# Altium schematic symbol library ic-adc-dac-dds.SchLib: 20 symbols
Pins are listed as number, name and electrical type; pins without a type are passive.

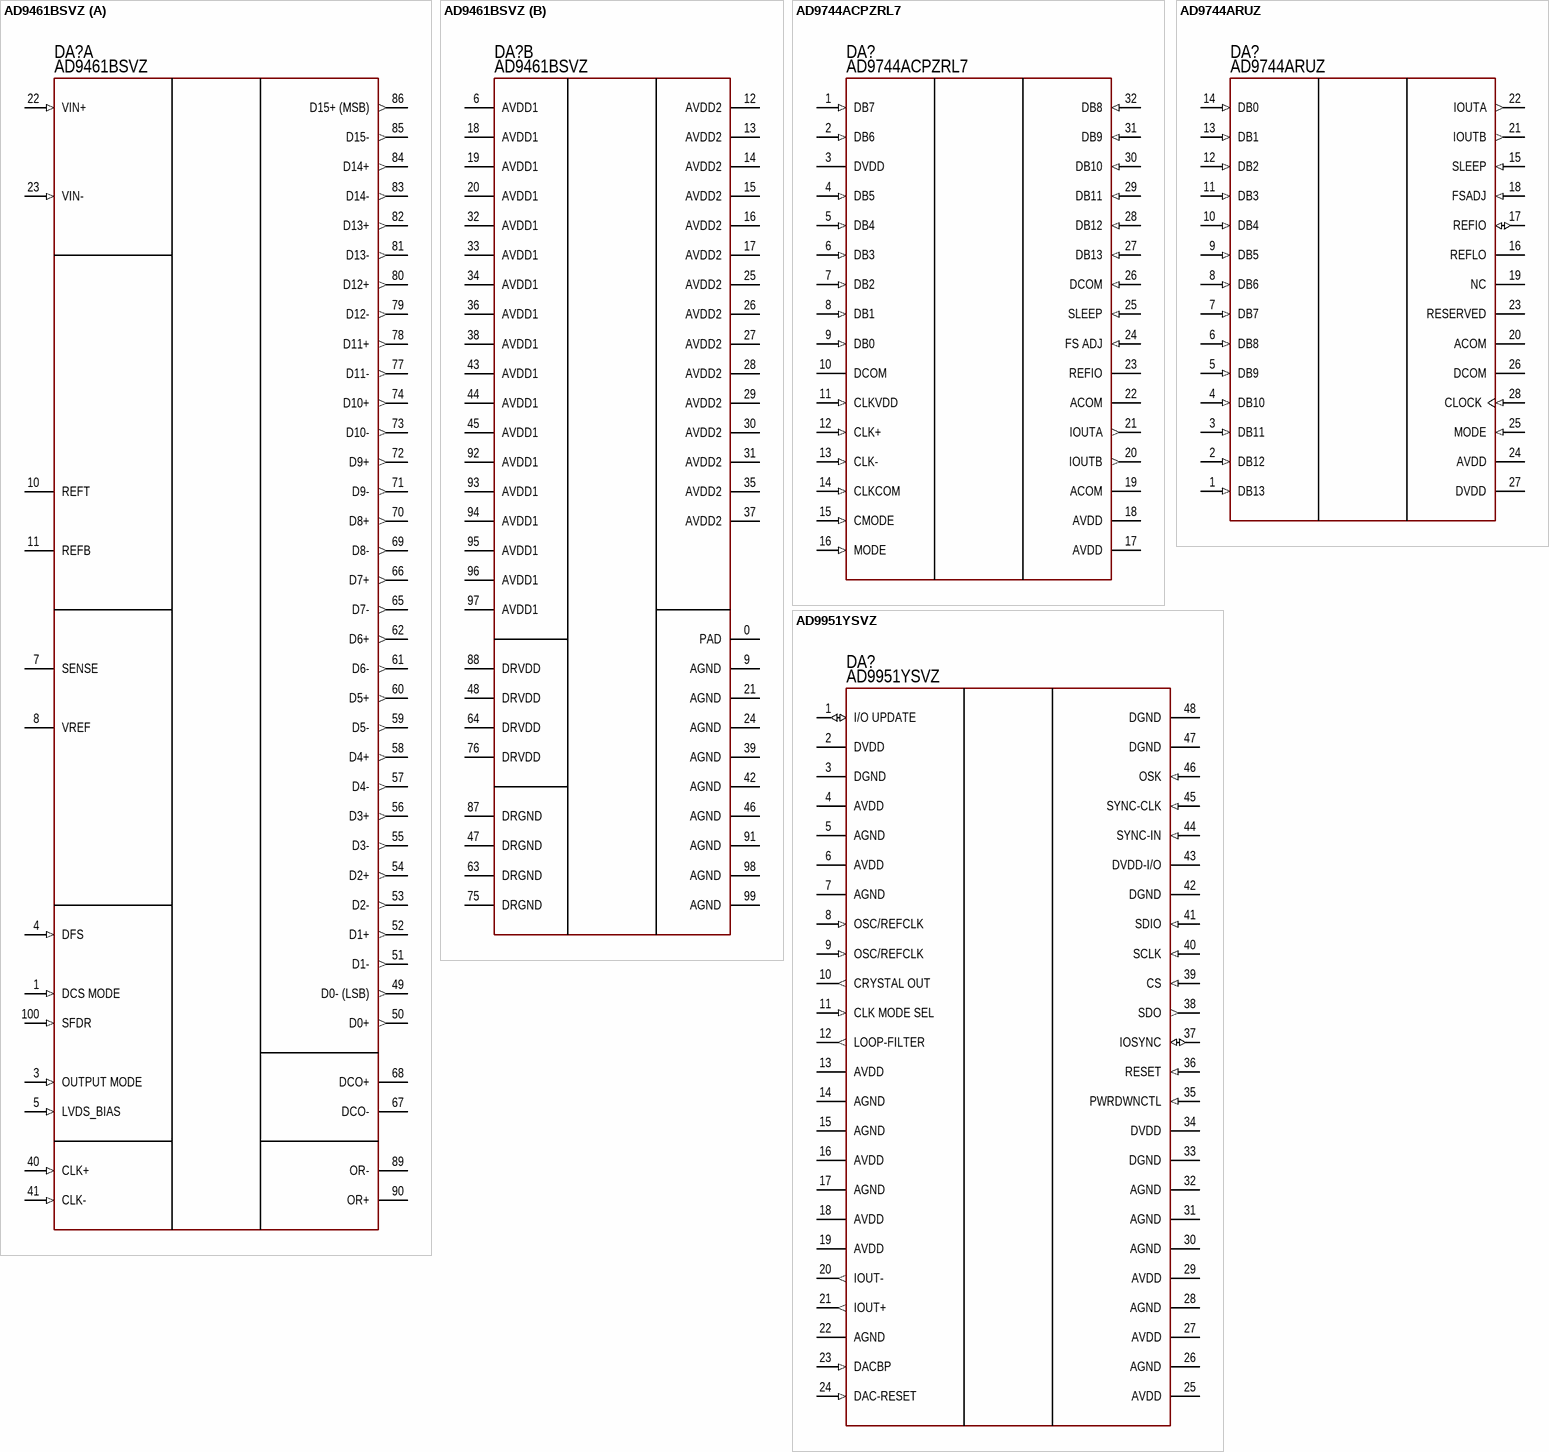
[diagram p0: symbols AD9461BSVZ to AD9951YSVZ]

## AD9461BSVZ
designator DA?  PartNumber: AD9461BSVZ
RF ADC; Manufacturer: Analog Devices; ValueManufacturerPartNumber: IC RF ADC, 16 bit, 130 Msps, Parallel/LVDS, 3...3.6V, -40...+85°C, 100-TQFP; Supply: 3...3.6V; Speed: 130 Msps; InterfaceData: Parallel/LVDS; Resolution: 16 bit; HelpURL: https://www.digikey.com/products/en?keywords=AD9461BSVZ; Package: 100-TQFP; ComponentType: IC RF ADC; Temperature: -40...+85°C
footprint 100-LQFP-PAD (Thin QFP, 100-Leads, Body 14x14mm, Pitch 0.5mm, IPC Medium Density)
part A pins: 1 DCS MODE (in), 3 OUTPUT MODE (in), 4 DFS (in), 5 LVDS_BIAS (in), 7 SENSE (power), 8 VREF (power), 10 REFT (power), 11 REFB (power), 22 VIN+ (in), 23 VIN- (in), 40 CLK+ (in), 41 CLK- (in), 49 D0- (LSB) (out), 50 D0+ (out), 51 D1- (out), 52 D1+ (out), 53 D2- (out), 54 D2+ (out), 55 D3- (out), 56 D3+ (out), 57 D4- (out), 58 D4+ (out), 59 D5- (out), 60 D5+ (out), 61 D6- (out), 62 D6+ (out), 65 D7- (out), 66 D7+ (out), 67 DCO-, 68 DCO+, 69 D8- (out), 70 D8+ (out), 71 D9- (out), 72 D9+ (out), 73 D10- (out), 74 D10+ (out), 77 D11- (out), 78 D11+ (out), 79 D12- (out), 80 D12+ (out), 81 D13- (out), 82 D13+ (out), 83 D14- (out), 84 D14+ (out), 85 D15- (out), 86 D15+ (MSB) (out), 89 OR-, 90 OR+, 100 SFDR (in)
part B pins: 0 PAD (power), 6 AVDD1 (power), 9 AGND (power), 12 AVDD2 (power), 13 AVDD2 (power), 14 AVDD2 (power), 15 AVDD2 (power), 16 AVDD2 (power), 17 AVDD2 (power), 18 AVDD1 (power), 19 AVDD1 (power), 20 AVDD1 (power), 21 AGND (power), 24 AGND (power), 25 AVDD2 (power), 26 AVDD2 (power), 27 AVDD2 (power), 28 AVDD2 (power), 29 AVDD2 (power), 30 AVDD2 (power), 31 AVDD2 (power), 32 AVDD1 (power), 33 AVDD1 (power), 34 AVDD1 (power), 35 AVDD2 (power), 36 AVDD1 (power), 37 AVDD2 (power), 38 AVDD1 (power), 39 AGND (power), 42 AGND (power), 43 AVDD1 (power), 44 AVDD1 (power), 45 AVDD1 (power), 46 AGND (power), 47 DRGND (power), 48 DRVDD (power), 63 DRGND (power), 64 DRVDD (power), 75 DRGND (power), 76 DRVDD (power), 87 DRGND (power), 88 DRVDD (power), 91 AGND (power), 92 AVDD1 (power), 93 AVDD1 (power), 94 AVDD1 (power), 95 AVDD1 (power), 96 AVDD1 (power), 97 AVDD1 (power), 98 AGND (power), 99 AGND (power)

## AD9744ACPZRL7
designator DA?  PartNumber: AD9744ACPZRL7
RF DAC; Manufacturer: Analog Devices; ValueManufacturerPartNumber: IC TxDAC, 14 bit, 210 Msps, Parallel, 2.7...3.6V, -40...+85°C, 32-WFQFN; Supply: 2.7...3.6V; Speed: 210 Msps; InterfaceData: Parallel; Resolution: 14 bit; HelpURL: https://www.digikey.com/product-detail/en/analog-devices-inc/AD9744ACPZRL7/AD9744ACPZRL7CT-ND/3740746; Package: 32-WFQFN; ComponentType: IC TxDAC; Temperature: -40...+85°C
footprint 32-QFN (5x5 mm, pitch 0.5 mm, power pad)
pins: 1 DB7 (in), 2 DB6 (in), 3 DVDD (power), 4 DB5 (in), 5 DB4 (in), 6 DB3 (in), 7 DB2 (in), 8 DB1 (in), 9 DB0 (in), 10 DCOM (power), 11 CLKVDD (in), 12 CLK+ (in), 13 CLK- (in), 14 CLKCOM (in), 15 CMODE (in), 16 MODE (in), 17 AVDD (power), 18 AVDD (power), 19 ACOM (power), 20 IOUTB (out), 21 IOUTA (out), 22 ACOM (power), 23 REFIO (power), 24 FS ADJ (in), 25 SLEEP (in), 26 DCOM (in), 27 DB13 (in), 28 DB12 (in), 29 DB11 (in), 30 DB10 (in), 31 DB9 (in), 32 DB8 (in)

## AD9744ARUZ
designator DA?  PartNumber: AD9744ARUZ
RF DAC; Manufacturer: Analog Devices; ValueManufacturerPartNumber: IC TxDAC, 14 bit, 210 Msps, Parallel, 2.7...3.6V, -40...+85°C, 28-TSSOP; Supply: 2.7...3.6V; Speed: 210 Msps; InterfaceData: Parallel; Resolution: 14 bit; HelpURL: https://www.digikey.com/product-detail/en/analog-devices-inc/AD9744ARUZ/AD9744ARUZ-ND/936549; Package: 28-TSSOP; ComponentType: IC TxDAC; Temperature: -40...+85°C
footprint 28-TSSOP (pitch 0.65 mm)
pins: 1 DB13 (in) "Most Significant Data Bit (MSB).", 2 DB12 (in) "Data Bit 12", 3 DB11 (in) "Data Bit 11", 4 DB10 (in) "Data Bit 10", 5 DB9 (in) "Data Bit 9", 6 DB8 (in) "Data Bit 8", 7 DB7 (in) "Data Bit 7", 8 DB6 (in) "Data Bit 6", 9 DB5 (in) "Data Bit 5", 10 DB4 (in) "Data Bit 4", 11 DB3 (in) "Data Bit 3", 12 DB2 (in) "Data Bit 2", 13 DB1 (in) "Data Bit 1", 14 DB0 (in) "Least Significant Data Bit (LSB).", 15 SLEEP (in) "Power-Down Control Input. Active high. Contains active pull-down circuit; it may be left unterminated if not used.", 16 REFLO "Reference Ground when Internal 1.2 V Reference Used. Connect to ACOM for both internal and external reference operation modes.", 17 REFIO (io) "Reference Input/Output. Serves as reference input when using external reference. Serves as 1.2 V reference output when using internal reference. Requires 0.1 uF capacitor to ACOM when using internal reference.", 18 FSADJ (in) "Full-Scale Current Output Adjust.", 19 NC "No Internal Connection.", 20 ACOM (power) "Analog Common.", 21 IOUTB (out) "Complementary DAC Current Output. Full-scale current when all data bits are 0s.", 22 IOUTA (out) "DAC Current Output. Full-scale current when all data bits are 1s.", 23 RESERVED "Reserved. Do not connect to common or supply.", 24 AVDD (power) "Analog Supply Voltage (3.3 V).", 25 MODE (in) "Selects Input Data Format. Connect to DCOM for straight binary, DVDD for twos complement.", 26 DCOM (power) "Digital Common.", 27 DVDD (power) "Digital Supply Voltage (3.3 V).", 28 CLOCK (in) "Clock Input. Data latched on positive edge of clock."

## AD9951YSVZ
designator DA?  PartNumber: AD9951YSVZ
DDS; Manufacturer: Analog Devices; ValueManufacturerPartNumber: IC DDS, 14 bit, 400 MHz, SPI, 1.71...1.96V, -40...+105°C, 48-TQFP; Supply: 1.71...1.96V; Speed: 400 MHz; InterfaceData: SPI; Resolution: 14 bit; HelpURL: https://www.digikey.com/products/en?keywords=AD9951YSVZ; Package: 48-TQFP; ComponentType: IC DDS; Temperature: -40...+105°C
footprint 48-LQFP (QFP, 48-Leads, Body 7x7mm, Pitch 0.5mm, IPC Medium Density)
pins: 1 I/O UPDATE (io), 2 DVDD (power), 3 DGND (power), 4 AVDD (power), 5 AGND (power), 6 AVDD (power), 7 AGND (power), 8 OSC/REFCLK (in), 9 OSC/REFCLK (in), 10 CRYSTAL OUT (out), 11 CLK MODE SEL (in), 12 LOOP-FILTER (out), 13 AVDD (power), 14 AGND (power), 15 AGND (power), 16 AVDD (power), 17 AGND (power), 18 AVDD (power), 19 AVDD (power), 20 IOUT- (out), 21 IOUT+ (out), 22 AGND (power), 23 DACBP (in), 24 DAC-RESET (in), 25 AVDD (power), 26 AGND (power), 27 AVDD (power), 28 AGND (power), 29 AVDD (power), 30 AGND (power), 31 AGND (power), 32 AGND (power), 33 DGND (power), 34 DVDD (power), 35 PWRDWNCTL (in), 36 RESET (in), 37 IOSYNC (io), 38 SDO (out), 39 CS (in), 40 SCLK (in), 41 SDIO (in), 42 DGND (power), 43 DVDD-I/O (power), 44 SYNC-IN (in), 45 SYNC-CLK (in), 46 OSK (in), 47 DGND (power), 48 DGND (power)

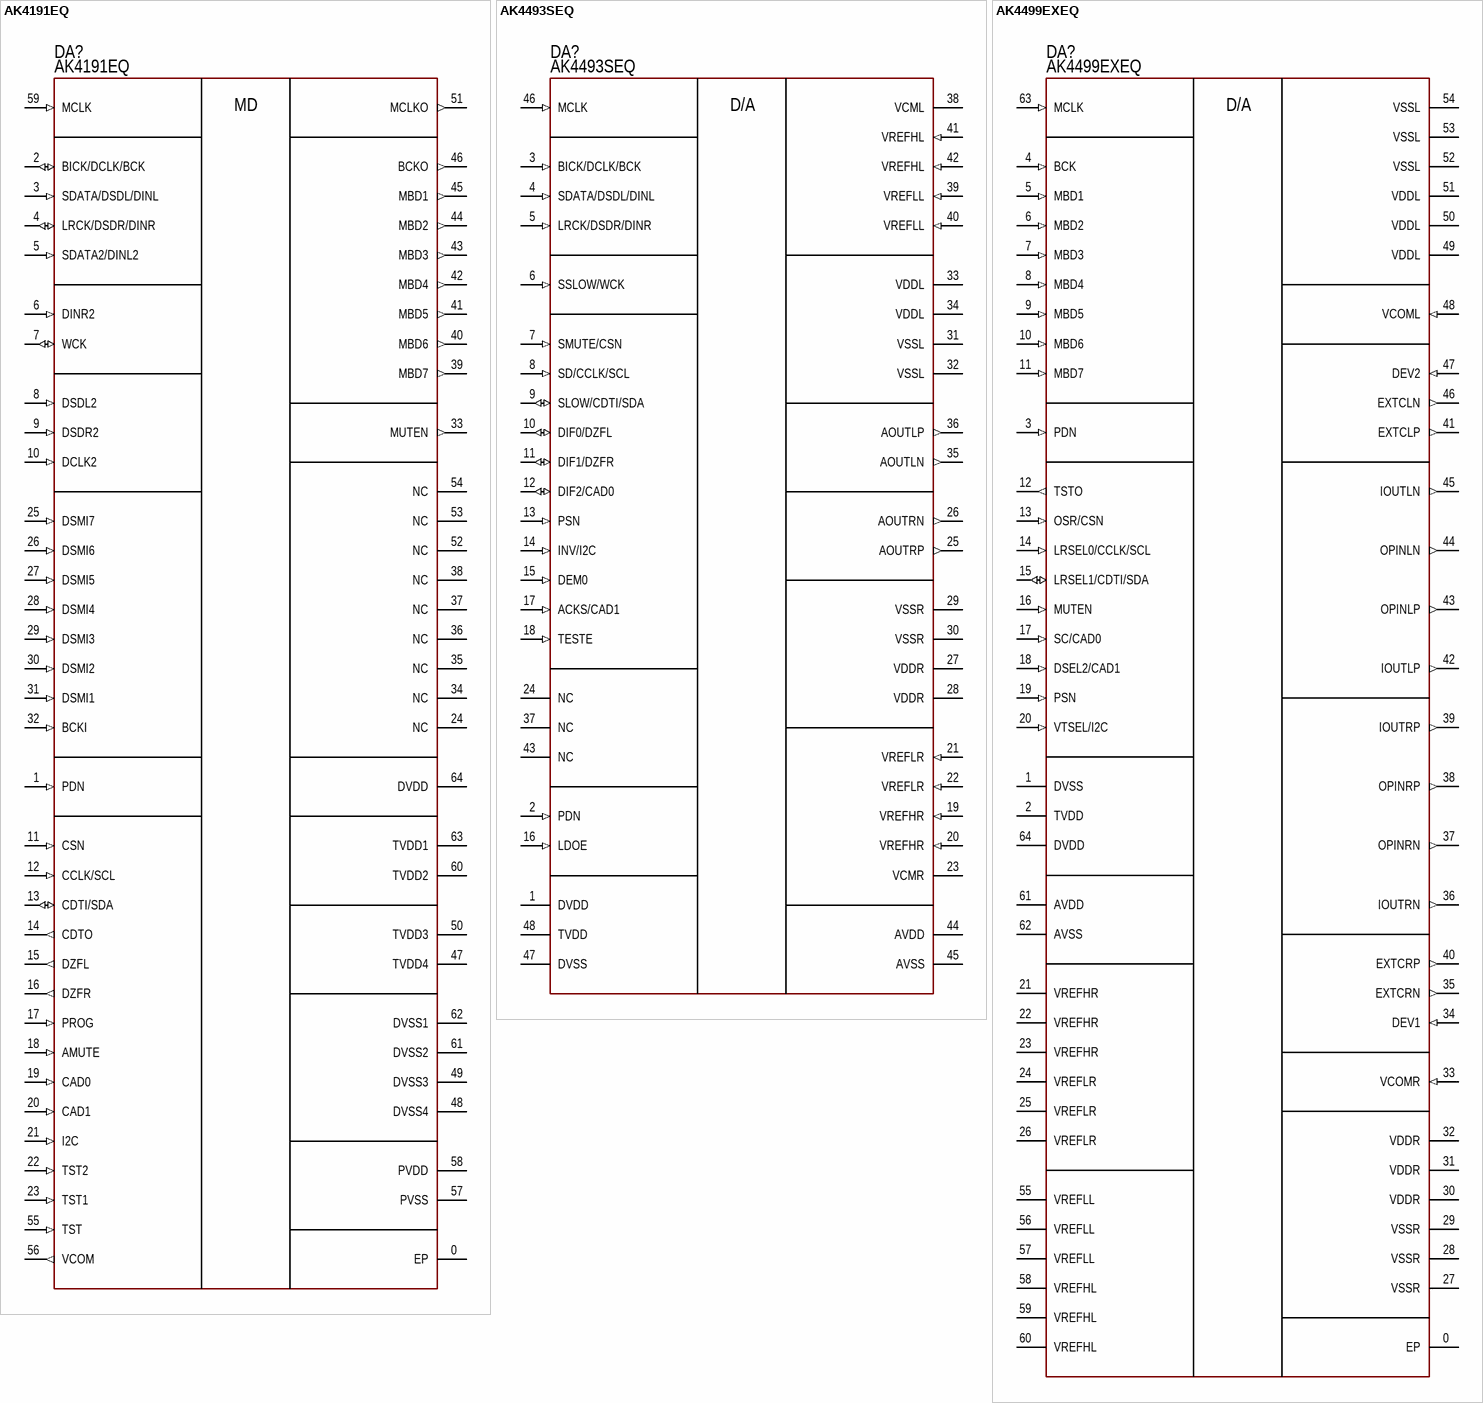
[diagram p1: symbols AK4191EQ to AK4499EXEQ]

## AK4191EQ
designator DA?  PartNumber: AK4191EQ
Delta-Sigma Modulator; Manufacturer: Asahi Kasei Microdevices; ValueManufacturerPartNumber: Audio Delta-Sigma Modulator, 64-bit Dual / 32-bit Single, 1536kHz, DSD, TDM, I2S, 3.0...3.6V, 1.7...3.6V, 1.14...1.3V, -40...+85°C, HTQFP-64; Supply: 3.0...3.6V, 1.7...3.6V, 1.14...1.3V; SamplingRate: 1536kHz; InterfaceData: DSD, TDM, I2S; Resolution: 64-bit Dual / 32-bit Single; HelpURL: https://eu.mouser.com/ProductDetail/Asahi-Kasei-Microdevices/AK4191EQ?qs=Jm2GQyTW%2Fbg3VxWa8PxIaQ%3D%3D; Package: HTQFP-64; ComponentType: Audio Delta-Sigma Modulator; Temperature: -40...+85°C
footprint 64-HTQFP (QFP,0.50mm pitch,square;16 pin X 16 pin,10.00mm X 10.00mm X 1.20mm H body (w/thermal tab 6.5 X 6.5 mm), IPC Medium Density)
pins: 0 EP, 1 PDN (in), 2 BICK/DCLK/BCK (io), 3 SDATA/DSDL/DINL (in), 4 LRCK/DSDR/DINR (io), 5 SDATA2/DINL2 (in), 6 DINR2 (in), 7 WCK (io), 8 DSDL2 (in), 9 DSDR2 (in), 10 DCLK2 (in), 11 CSN (in), 12 CCLK/SCL (in), 13 CDTI/SDA (io), 14 CDTO (out), 15 DZFL (out), 16 DZFR (out), 17 PROG (in), 18 AMUTE (in), 19 CAD0 (in), 20 CAD1 (in), 21 I2C (in), 22 TST2 (in), 23 TST1 (in), 24 NC, 25 DSMI7 (in), 26 DSMI6 (in), 27 DSMI5 (in), 28 DSMI4 (in), 29 DSMI3 (in), 30 DSMI2 (in), 31 DSMI1 (in), 32 BCKI (in), 33 MUTEN (out), 34 NC, 35 NC, 36 NC, 37 NC, 38 NC, 39 MBD7 (out), 40 MBD6 (out), 41 MBD5 (out), 42 MBD4 (out), 43 MBD3 (out), 44 MBD2 (out), 45 MBD1 (out), 46 BCKO (out), 47 TVDD4 (power), 48 DVSS4, 49 DVSS3, 50 TVDD3 (power), 51 MCLKO (out), 52 NC, 53 NC, 54 NC, 55 TST (in), 56 VCOM (out), 57 PVSS, 58 PVDD (power), 59 MCLK (in), 60 TVDD2 (power), 61 DVSS2, 62 DVSS1, 63 TVDD1 (power), 64 DVDD (power)
text: MD

## AK4493SEQ
designator DA?  PartNumber: AK4493SEQ
Audio D/A Converter; Manufacturer: Asahi Kasei Microdevices; ValueManufacturerPartNumber: Audio D/A Converter, 32 bit, 768kHz, DSD, I2S, 4.75...5.25V, 1.7...1.98V, 3.0...3.6V, -40...+85°C, LQFP-48; Supply: 4.75...5.25V, 1.7...1.98V, 3.0...3.6V; SamplingRate: 768kHz; InterfaceData: DSD, I2S; Resolution: 32 bit; HelpURL: https://eu.mouser.com/ProductDetail/Asahi-Kasei-Microdevices/AK4493SEQ?qs=vvQtp7zwQdNLz7hR9sAnvg%3D%3D; Package: LQFP-48; ComponentType: Audio D/A Converter; Temperature: -40...+85°C
footprint 48-LQFP (QFP, 48-Leads, Body 7x7mm, Pitch 0.5mm, IPC Medium Density)
pins: 1 DVDD (power), 2 PDN (in), 3 BICK/DCLK/BCK (in), 4 SDATA/DSDL/DINL (in), 5 LRCK/DSDR/DINR (in), 6 SSLOW/WCK (in), 7 SMUTE/CSN (in), 8 SD/CCLK/SCL (in), 9 SLOW/CDTI/SDA (io), 10 DIF0/DZFL (io), 11 DIF1/DZFR (io), 12 DIF2/CAD0 (io), 13 PSN (in), 14 INV/I2C (in), 15 DEM0 (in), 16 LDOE (in), 17 ACKS/CAD1 (in), 18 TESTE (in), 19 VREFHR (in), 20 VREFHR (in), 21 VREFLR (in), 22 VREFLR (in), 23 VCMR (power), 24 NC, 25 AOUTRP (out), 26 AOUTRN (out), 27 VDDR (power), 28 VDDR (power), 29 VSSR (power), 30 VSSR (power), 31 VSSL (power), 32 VSSL (power), 33 VDDL (power), 34 VDDL (power), 35 AOUTLN (out), 36 AOUTLP (out), 37 NC, 38 VCML (power), 39 VREFLL (in), 40 VREFLL (in), 41 VREFHL (in), 42 VREFHL (in), 43 NC, 44 AVDD (power), 45 AVSS (power), 46 MCLK (in), 47 DVSS (power), 48 TVDD (power)
text: D/A

## AK4499EXEQ
designator DA?  PartNumber: AK4499EXEQ
Audio D/A Converter; Manufacturer: Asahi Kasei Microdevices; ValueManufacturerPartNumber: Audio D/A Converter, 64-bit Dual / 32-bit Single, 1536kHz, Multi-Bit, 1.7...3.6V, 1.7...1.98V, 4.75...5.25V, -40...+85°C, HTQFP-64; Supply: 1.7...3.6V, 1.7...1.98V, 4.75...5.25V; SamplingRate: 1536kHz; InterfaceData: Multi-Bit; Resolution: 64-bit Dual / 32-bit Single; HelpURL: https://eu.mouser.com/ProductDetail/Asahi-Kasei-Microdevices/AK4499EXEQ?qs=Jm2GQyTW%2FbgskGT5RpdZpA%3D%3D; Package: HTQFP-64; ComponentType: Audio D/A Converter; Temperature: -40...+85°C
footprint 64-HTQFP (QFP,0.50mm pitch,square;16 pin X 16 pin,10.00mm X 10.00mm X 1.20mm H body (w/thermal tab 6.5 X 6.5 mm), IPC Medium Density)
pins: 0 EP, 1 DVSS, 2 TVDD (power), 3 PDN (in), 4 BCK (in), 5 MBD1 (in), 6 MBD2 (in), 7 MBD3 (in), 8 MBD4 (in), 9 MBD5 (in), 10 MBD6 (in), 11 MBD7 (in), 12 TSTO (out), 13 OSR/CSN (in), 14 LRSEL0/CCLK/SCL (in), 15 LRSEL1/CDTI/SDA (io), 16 MUTEN (in), 17 SC/CAD0 (in), 18 DSEL2/CAD1 (in), 19 PSN (in), 20 VTSEL/I2C (in), 21 VREFHR (power), 22 VREFHR (power), 23 VREFHR (power), 24 VREFLR, 25 VREFLR, 26 VREFLR, 27 VSSR, 28 VSSR, 29 VSSR, 30 VDDR (power), 31 VDDR (power), 32 VDDR (power), 33 VCOMR (in), 34 DEV1 (in), 35 EXTCRN (out), 36 IOUTRN (out), 37 OPINRN (out), 38 OPINRP (out), 39 IOUTRP (out), 40 EXTCRP (out), 41 EXTCLP (out), 42 IOUTLP (out), 43 OPINLP (out), 44 OPINLN (out), 45 IOUTLN (out), 46 EXTCLN (out), 47 DEV2 (in), 48 VCOML (in), 49 VDDL (power), 50 VDDL (power), 51 VDDL (power), 52 VSSL, 53 VSSL, 54 VSSL, 55 VREFLL, 56 VREFLL, 57 VREFLL, 58 VREFHL (power), 59 VREFHL (power), 60 VREFHL (power), 61 AVDD (power), 62 AVSS, 63 MCLK (in), 64 DVDD (power)
text: D/A

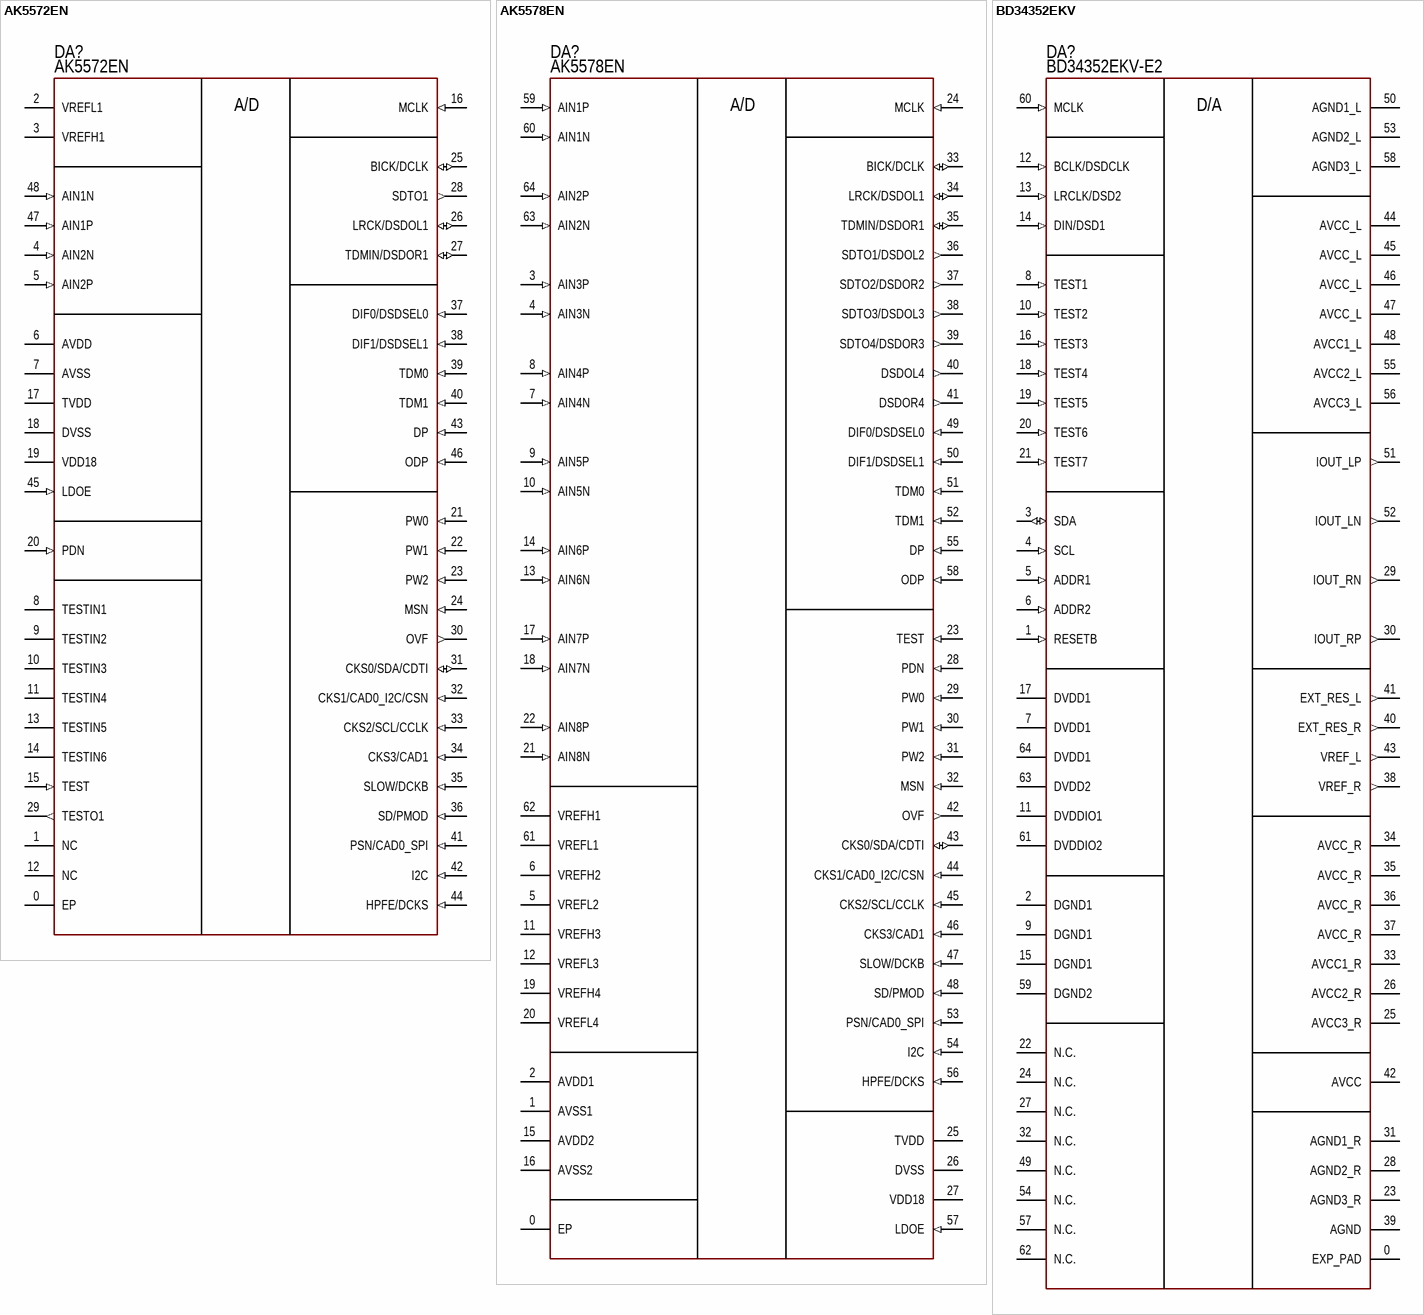
[diagram p2: symbols AK5572EN to BD34352EKV]

## AK5572EN
designator DA?  PartNumber: AK5572EN
ADC, Audio; Manufacturer: Asahi Kasei Microdevices; ValueManufacturerPartNumber: ADC, Audio, 32 bit, 768kHz, DSD, I2S, 1.8V, 5V, -40...+105°C, QFN-48; Supply: 1.8V, 5V; SamplingRate: 768kHz; InterfaceData: DSD, I2S; Resolution: 32 bit; HelpURL: https://www.digikey.com/en/products/detail/asahi-kasei-microdevices-akm/AK5572EN/5848562; Package: QFN-48; ComponentType: ADC, Audio; Temperature: -40...+105°C
footprint 48-QFN-P (50P-700X700X85-S510) (QFN, 0.50mm Pitch, Square; 48 Pin, 7.00mm L X 7.00mm W X 0.85mm H Body (W/Thermal Tab 5.10mm X 5.10mm), Punch, IPC Medium Density)
pins: 0 EP, 1 NC, 2 VREFL1 (power), 3 VREFH1 (power), 4 AIN2N (in), 5 AIN2P (in), 6 AVDD (power), 7 AVSS, 8 TESTIN1, 9 TESTIN2, 10 TESTIN3, 11 TESTIN4, 12 NC, 13 TESTIN5, 14 TESTIN6, 15 TEST (in), 16 MCLK (in), 17 TVDD (power), 18 DVSS, 19 VDD18 (power), 20 PDN (in), 21 PW0 (in), 22 PW1 (in), 23 PW2 (in), 24 MSN (in), 25 BICK/DCLK (io), 26 LRCK/DSDOL1 (io), 27 TDMIN/DSDOR1 (io), 28 SDTO1 (out), 29 TESTO1 (out), 30 OVF (out), 31 CKS0/SDA/CDTI (io), 32 CKS1/CAD0_I2C/CSN (in), 33 CKS2/SCL/CCLK (in), 34 CKS3/CAD1 (in), 35 SLOW/DCKB (in), 36 SD/PMOD (in), 37 DIF0/DSDSEL0 (in), 38 DIF1/DSDSEL1 (in), 39 TDM0 (in), 40 TDM1 (in), 41 PSN/CAD0_SPI (in), 42 I2C (in), 43 DP (in), 44 HPFE/DCKS (in), 45 LDOE (in), 46 ODP (in), 47 AIN1P (in), 48 AIN1N (in)
text: A/D

## AK5578EN
designator DA?  PartNumber: AK5578EN
ADC, Audio; Manufacturer: Asahi Kasei Microdevices; ValueManufacturerPartNumber: ADC, Audio, 32 bit, 768kHz, DSD, I2S, 1.8V, 5V, -40...+105°C, QFN-64; Supply: 1.8V, 5V; SamplingRate: 768kHz; InterfaceData: DSD, I2S; Resolution: 32 bit; HelpURL: https://eu.mouser.com/ProductDetail/Asahi-Kasei-Microdevices/AK5578EN?qs=vvQtp7zwQdM7H1iCPGIZ0A%3D%3D; Package: QFN-64; ComponentType: ADC, Audio; Temperature: -40...+105°C
footprint 64-QFN (50P-900X900X100-S615) (QFN,0.50mm pitch,square;64 pin,9.00mm L X 9.00mm W X 1.00mm H body (6.15mm X 6.15mm thermal tab), IPC Medium Density)
pins: 0 EP, 1 AVSS1, 2 AVDD1 (power), 3 AIN3P (in), 4 AIN3N (in), 5 VREFL2 (power), 6 VREFH2 (power), 7 AIN4N (in), 8 AIN4P (in), 9 AIN5P (in), 10 AIN5N (in), 11 VREFH3 (power), 12 VREFL3 (power), 13 AIN6N (in), 14 AIN6P (in), 15 AVDD2 (power), 16 AVSS2, 17 AIN7P (in), 18 AIN7N (in), 19 VREFH4 (power), 20 VREFL4 (power), 21 AIN8N (in), 22 AIN8P (in), 23 TEST (in), 24 MCLK (in), 25 TVDD (power), 26 DVSS, 27 VDD18 (power), 28 PDN (in), 29 PW0 (in), 30 PW1 (in), 31 PW2 (in), 32 MSN (in), 33 BICK/DCLK (io), 34 LRCK/DSDOL1 (io), 35 TDMIN/DSDOR1 (io), 36 SDTO1/DSDOL2 (out), 37 SDTO2/DSDOR2 (out), 38 SDTO3/DSDOL3 (out), 39 SDTO4/DSDOR3 (out), 40 DSDOL4 (out), 41 DSDOR4 (out), 42 OVF (out), 43 CKS0/SDA/CDTI (io), 44 CKS1/CAD0_I2C/CSN (in), 45 CKS2/SCL/CCLK (in), 46 CKS3/CAD1 (in), 47 SLOW/DCKB (in), 48 SD/PMOD (in), 49 DIF0/DSDSEL0 (in), 50 DIF1/DSDSEL1 (in), 51 TDM0 (in), 52 TDM1 (in), 53 PSN/CAD0_SPI (in), 54 I2C (in), 55 DP (in), 56 HPFE/DCKS (in), 57 LDOE (in), 58 ODP (in), 59 AIN1P (in), 60 AIN1N (in), 61 VREFL1 (power), 62 VREFH1 (power), 63 AIN2N (in), 64 AIN2P (in)
text: A/D

## BD34352EKV
designator DA?  PartNumber: BD34352EKV-E2
Audio D/A Converter; Manufacturer: ROHM Semiconductor; ValueManufacturerPartNumber: Audio D/A Converter, 32 bit, 768kHz, DSD, I2S, 4.5...5.5V, 1.4...1.6V, 3.0...3.6V, -25...+85°C, HTQFP-64; Supply: 4.5...5.5V, 1.4...1.6V, 3.0...3.6V; SamplingRate: 768kHz; InterfaceData: DSD, I2S; Resolution: 32 bit; HelpURL: https://eu.mouser.com/ProductDetail/ROHM-Semiconductor/BD34352EKV-E2?qs=doiCPypUmgE6zjHEHWcN9A%3D%3D; Package: HTQFP-64; ComponentType: Audio D/A Converter; Temperature: -25...+85°C
footprint 64-HTQFP (QFP,0.50mm pitch,square;16 pin X 16 pin,10.00mm X 10.00mm X 1.20mm H body (w/thermal tab 6.5 X 6.5 mm), IPC Medium Density)
pins: 0 EXP_PAD (power), 1 RESETB (in), 2 DGND1 (power), 3 SDA (io), 4 SCL (in), 5 ADDR1 (in), 6 ADDR2 (in), 7 DVDD1 (power), 8 TEST1 (in), 9 DGND1 (power), 10 TEST2 (in), 11 DVDDIO1 (power), 12 BCLK/DSDCLK (in), 13 LRCLK/DSD2 (in), 14 DIN/DSD1 (in), 15 DGND1 (power), 16 TEST3 (in), 17 DVDD1 (power), 18 TEST4 (in), 19 TEST5 (in), 20 TEST6 (in), 21 TEST7 (in), 22 N.C., 23 AGND3_R (power), 24 N.C., 25 AVCC3_R (power), 26 AVCC2_R (power), 27 N.C., 28 AGND2_R (power), 29 IOUT_RN (out), 30 IOUT_RP (out), 31 AGND1_R (power), 32 N.C., 33 AVCC1_R (power), 34 AVCC_R (power), 35 AVCC_R (power), 36 AVCC_R (power), 37 AVCC_R (power), 38 VREF_R (out), 39 AGND (power), 40 EXT_RES_R (out), 41 EXT_RES_L (out), 42 AVCC (power), 43 VREF_L (out), 44 AVCC_L (power), 45 AVCC_L (power), 46 AVCC_L (power), 47 AVCC_L (power), 48 AVCC1_L (power), 49 N.C., 50 AGND1_L (power), 51 IOUT_LP (out), 52 IOUT_LN (out), 53 AGND2_L (power), 54 N.C., 55 AVCC2_L (power), 56 AVCC3_L (power), 57 N.C., 58 AGND3_L (power), 59 DGND2 (power), 60 MCLK (in), 61 DVDDIO2 (power), 62 N.C., 63 DVDD2 (power), 64 DVDD1 (power)
text: D/A

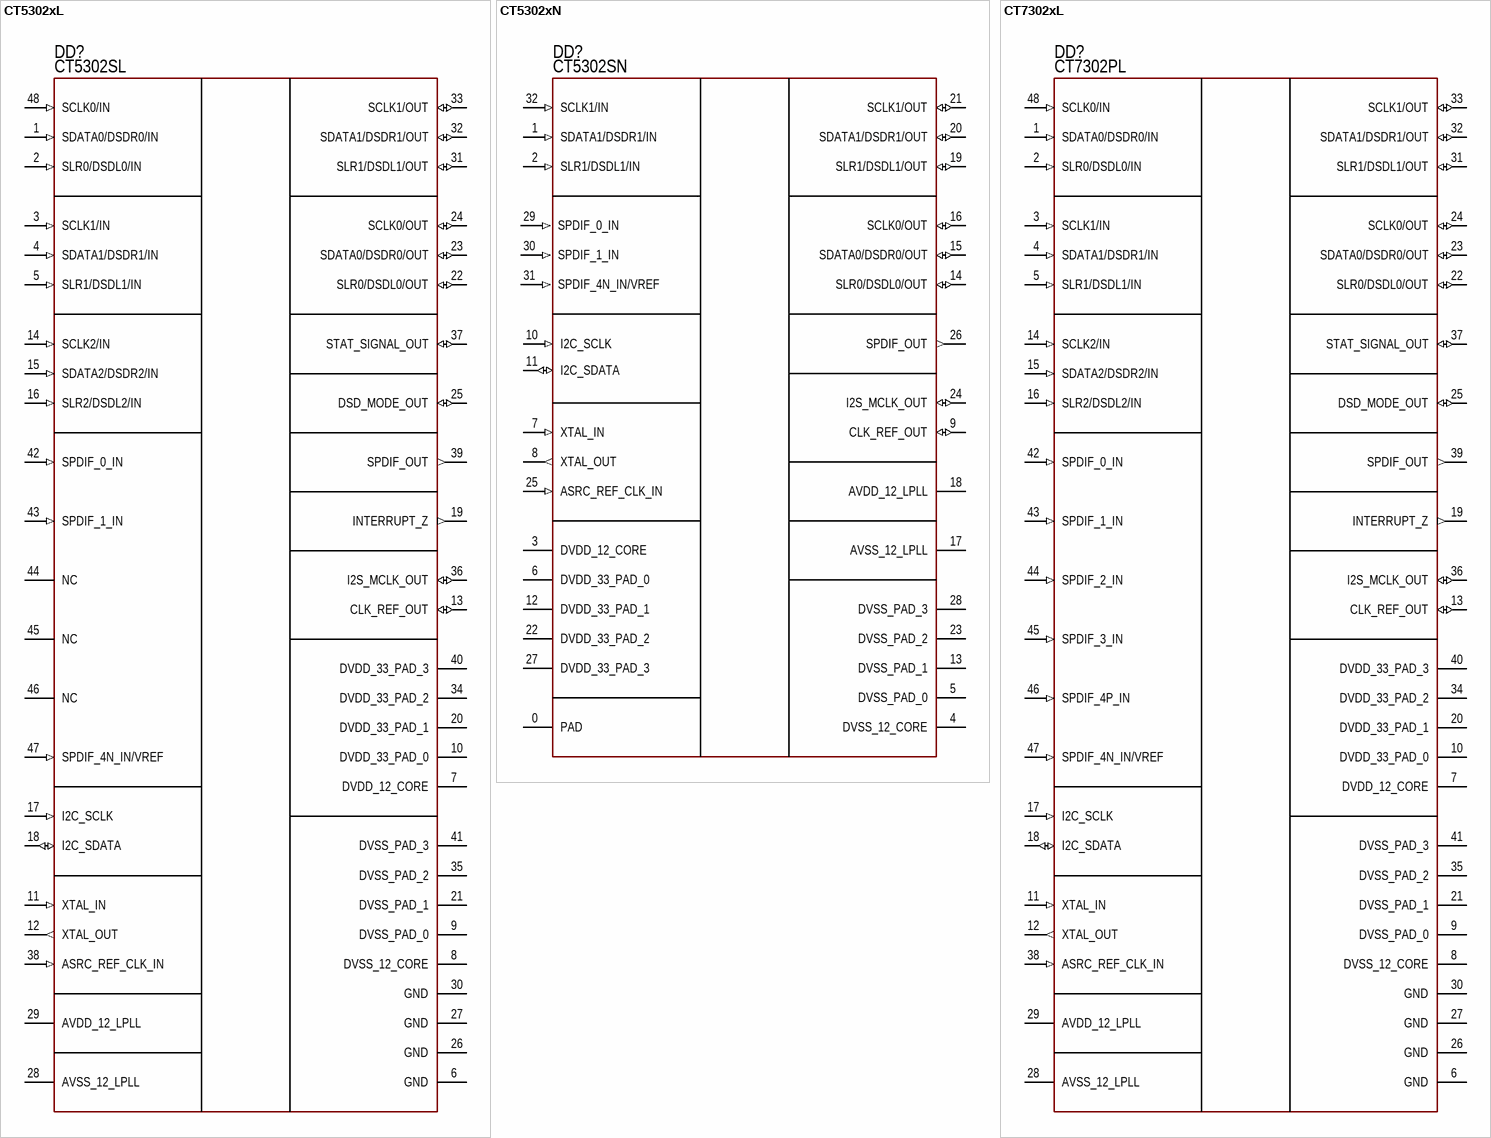
[diagram p3: symbols CT5302xL to CT7302xL]

## CT5302xL
designator DD?  PartNumber: CT5302SL
Audio SRC; Manufacturer: ComTrue Inc; ValueManufacturerPartNumber: Audio SRC, 32 bit, I2S/SPDIF, 1.2...3.3V, 0...+70°C, LQFP-48; Supply: 1.2...3.3V; InterfaceData: I2S/SPDIF; Resolution: 32 bit; HelpURL: https://www.comtrue-inc.com/index.php/products; Package: LQFP-48; ComponentType: Audio SRC; Temperature: 0...+70°C
footprint 48-LQFP (QFP, 48-Leads, Body 7x7mm, Pitch 0.5mm, IPC Medium Density)
pins: 1 SDATA0/DSDR0/IN (in), 2 SLR0/DSDL0/IN (in), 3 SCLK1/IN (in), 4 SDATA1/DSDR1/IN (in), 5 SLR1/DSDL1/IN (in), 6 GND, 7 DVDD_12_CORE (power), 8 DVSS_12_CORE, 9 DVSS_PAD_0, 10 DVDD_33_PAD_0 (power), 11 XTAL_IN (in), 12 XTAL_OUT (out), 13 CLK_REF_OUT (io), 14 SCLK2/IN (in), 15 SDATA2/DSDR2/IN (in), 16 SLR2/DSDL2/IN (in), 17 I2C_SCLK (in), 18 I2C_SDATA (io), 19 INTERRUPT_Z (out), 20 DVDD_33_PAD_1 (power), 21 DVSS_PAD_1, 22 SLR0/DSDL0/OUT (io), 23 SDATA0/DSDR0/OUT (io), 24 SCLK0/OUT (io), 25 DSD_MODE_OUT (io), 26 GND, 27 GND, 28 AVSS_12_LPLL, 29 AVDD_12_LPLL (power), 30 GND, 31 SLR1/DSDL1/OUT (io), 32 SDATA1/DSDR1/OUT (io), 33 SCLK1/OUT (io), 34 DVDD_33_PAD_2 (power), 35 DVSS_PAD_2, 36 I2S_MCLK_OUT (io), 37 STAT_SIGNAL_OUT (io), 38 ASRC_REF_CLK_IN (in), 39 SPDIF_OUT (out), 40 DVDD_33_PAD_3 (power), 41 DVSS_PAD_3, 42 SPDIF_0_IN (in), 43 SPDIF_1_IN (in), 44 NC, 45 NC, 46 NC, 47 SPDIF_4N_IN/VREF (in), 48 SCLK0/IN (in)

## CT5302xN
designator DD?  PartNumber: CT5302SN
Audio SRC; Manufacturer: ComTrue Inc; ValueManufacturerPartNumber: Audio SRC, 32 bit, I2S/SPDIF, 1.2...3.3V, 0...+70°C, QFN-32; Supply: 1.2...3.3V; InterfaceData: I2S/SPDIF; Resolution: 32 bit; HelpURL: https://www.comtrue-inc.com/index.php/products; Package: QFN-32; ComponentType: Audio SRC; Temperature: 0...+70°C
footprint 32-QFN (0.4P 4.0x4.0 2.75S) (QFN, 0.40mm Pitch, Square; 32 pin, 4.00mm L X 4.00mm W X 0.90mm H body (w/Thermal Tab), IPC Medium Density)
pins: 0 PAD, 1 SDATA1/DSDR1/IN (in), 2 SLR1/DSDL1/IN (in), 3 DVDD_12_CORE (power), 4 DVSS_12_CORE, 5 DVSS_PAD_0, 6 DVDD_33_PAD_0 (power), 7 XTAL_IN (in), 8 XTAL_OUT (out), 9 CLK_REF_OUT (io), 10 I2C_SCLK (in), 11 I2C_SDATA (io), 12 DVDD_33_PAD_1 (power), 13 DVSS_PAD_1, 14 SLR0/DSDL0/OUT (io), 15 SDATA0/DSDR0/OUT (io), 16 SCLK0/OUT (io), 17 AVSS_12_LPLL, 18 AVDD_12_LPLL (power), 19 SLR1/DSDL1/OUT (io), 20 SDATA1/DSDR1/OUT (io), 21 SCLK1/OUT (io), 22 DVDD_33_PAD_2 (power), 23 DVSS_PAD_2, 24 I2S_MCLK_OUT (io), 25 ASRC_REF_CLK_IN (in), 26 SPDIF_OUT (out), 27 DVDD_33_PAD_3 (power), 28 DVSS_PAD_3, 29 SPDIF_0_IN (in), 30 SPDIF_1_IN (in), 31 SPDIF_4N_IN/VREF (in), 32 SCLK1/IN (in)

## CT7302xL
designator DD?  PartNumber: CT7302PL
Audio SRC; Manufacturer: ComTrue Inc; ValueManufacturerPartNumber: Audio SRC, 32 bit, I2S/SPDIF, 1.2...3.3V, 0...+70°C, LQFP-48; Supply: 1.2...3.3V; InterfaceData: I2S/SPDIF; Resolution: 32 bit; HelpURL: https://www.comtrue-inc.com/index.php/products; Package: LQFP-48; ComponentType: Audio SRC; Temperature: 0...+70°C
footprint 48-LQFP (QFP, 48-Leads, Body 7x7mm, Pitch 0.5mm, IPC Medium Density)
pins: 1 SDATA0/DSDR0/IN (in), 2 SLR0/DSDL0/IN (in), 3 SCLK1/IN (in), 4 SDATA1/DSDR1/IN (in), 5 SLR1/DSDL1/IN (in), 6 GND, 7 DVDD_12_CORE (power), 8 DVSS_12_CORE, 9 DVSS_PAD_0, 10 DVDD_33_PAD_0 (power), 11 XTAL_IN (in), 12 XTAL_OUT (out), 13 CLK_REF_OUT (io), 14 SCLK2/IN (in), 15 SDATA2/DSDR2/IN (in), 16 SLR2/DSDL2/IN (in), 17 I2C_SCLK (in), 18 I2C_SDATA (io), 19 INTERRUPT_Z (out), 20 DVDD_33_PAD_1 (power), 21 DVSS_PAD_1, 22 SLR0/DSDL0/OUT (io), 23 SDATA0/DSDR0/OUT (io), 24 SCLK0/OUT (io), 25 DSD_MODE_OUT (io), 26 GND, 27 GND, 28 AVSS_12_LPLL, 29 AVDD_12_LPLL (power), 30 GND, 31 SLR1/DSDL1/OUT (io), 32 SDATA1/DSDR1/OUT (io), 33 SCLK1/OUT (io), 34 DVDD_33_PAD_2 (power), 35 DVSS_PAD_2, 36 I2S_MCLK_OUT (io), 37 STAT_SIGNAL_OUT (io), 38 ASRC_REF_CLK_IN (in), 39 SPDIF_OUT (out), 40 DVDD_33_PAD_3 (power), 41 DVSS_PAD_3, 42 SPDIF_0_IN (in), 43 SPDIF_1_IN (in), 44 SPDIF_2_IN (in), 45 SPDIF_3_IN (in), 46 SPDIF_4P_IN (in), 47 SPDIF_4N_IN/VREF (in), 48 SCLK0/IN (in)

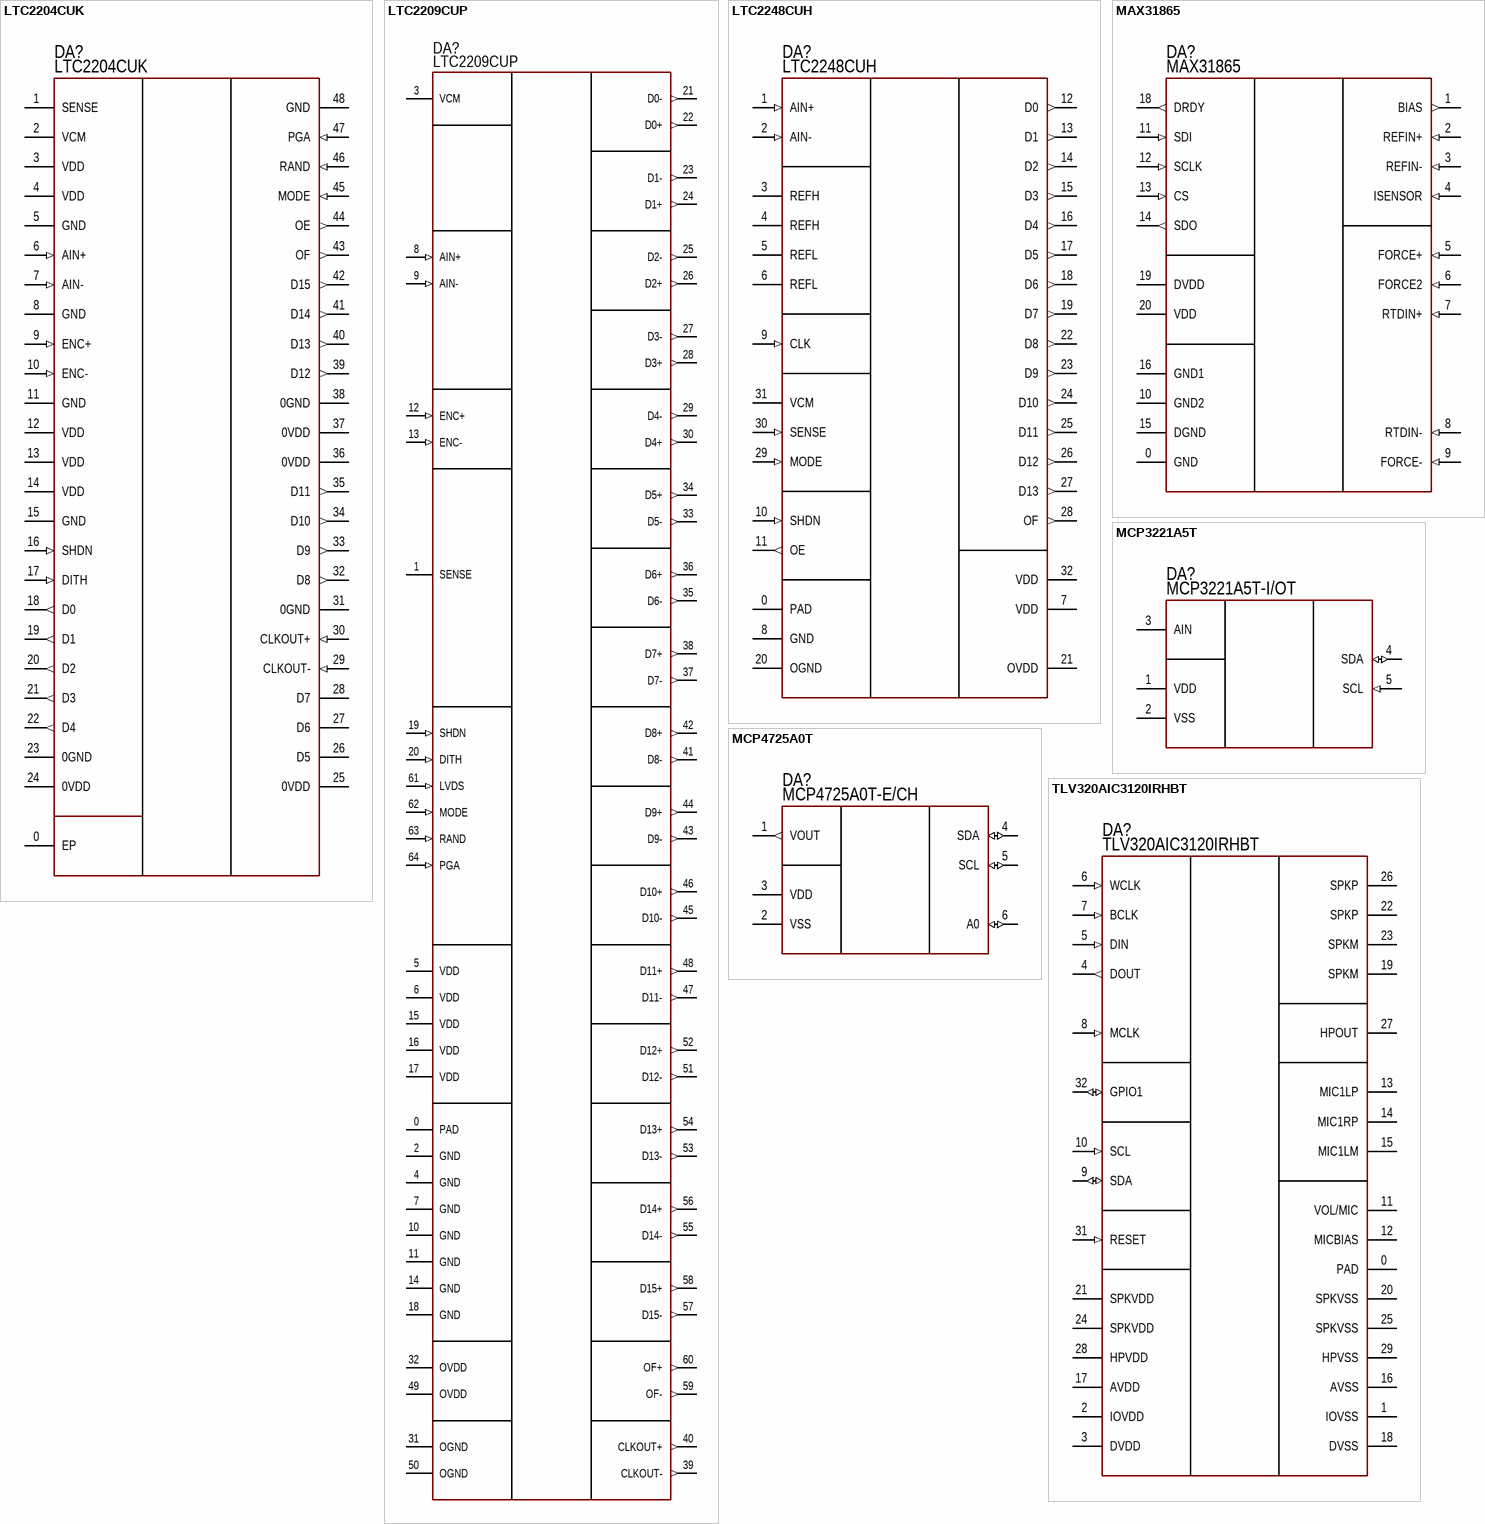
[diagram p4: symbols LTC2204CUK to TLV320AIC3120IRHBT]

## LTC2204CUK
designator DA?  PartNumber: LTC2204CUK
RF ADC; Manufacturer: Linear Technology; ValueManufacturerPartNumber: IC RF ADC, 16 bit, 40 Msps, Parallel, 3.135...3.465V, 0...+70°C, 48-WFQFN; Supply: 3.135...3.465V; Speed: 40 Msps; InterfaceData: Parallel; Resolution: 16 bit; HelpURL: https://www.digikey.com/products/en?keywords=AD9461BSVZ; Package: 48-WFQFN; ComponentType: IC RF ADC; Temperature: 0...+70°C
footprint 48-QFN (7x7) (7x7 mm, pitch 0.5 mm, power pad)
pins: 0 EP (power), 1 SENSE (power), 2 VCM (power), 3 VDD (power), 4 VDD (power), 5 GND (power), 6 AIN+ (in), 7 AIN- (in), 8 GND (power), 9 ENC+ (in), 10 ENC- (in), 11 GND (power), 12 VDD (power), 13 VDD (power), 14 VDD (power), 15 GND (power), 16 SHDN (in), 17 DITH (in), 18 D0 (out), 19 D1 (out), 20 D2 (out), 21 D3 (out), 22 D4 (out), 23 0GND (power), 24 0VDD (power), 25 0VDD (power), 26 D5, 27 D6, 28 D7, 29 CLKOUT- (in), 30 CLKOUT+ (in), 31 0GND (power), 32 D8 (out), 33 D9 (out), 34 D10 (out), 35 D11 (out), 36 0VDD (power), 37 0VDD (power), 38 0GND (power), 39 D12 (out), 40 D13 (out), 41 D14 (out), 42 D15 (out), 43 OF (out), 44 OE (out), 45 MODE (in), 46 RAND (in), 47 PGA (in), 48 GND (power)

## LTC2209CUP
designator DA?  PartNumber: LTC2209CUP
RF ADC; Manufacturer: Linear Technology; ValueManufacturerPartNumber: IC RF ADC, 16 bit, 160 Msps, Parallel/LVDS, 3.135...3.465V, 0...+70°C, 64-WFQFN; Supply: 3.135...3.465V; Speed: 160 Msps; InterfaceData: Parallel/LVDS; Resolution: 16 bit; HelpURL: https://www.digikey.com/product-detail/en/linear-technology-analog-devices/LTC2209CUP-PBF/LTC2209CUP-PBF-ND/1730243; Package: 64-WFQFN; ComponentType: IC RF ADC; Temperature: 0...+70°C
footprint 64-QFN (9x9 mm, pitch 0.5 mm, power pad)
pins: 0 PAD (power), 1 SENSE (power), 2 GND (power), 3 VCM (power), 4 GND (power), 5 VDD (power), 6 VDD (power), 7 GND (power), 8 AIN+ (in), 9 AIN- (in), 10 GND (power), 11 GND (power), 12 ENC+ (in), 13 ENC- (in), 14 GND (power), 15 VDD (power), 16 VDD (power), 17 VDD (power), 18 GND (power), 19 SHDN (in), 20 DITH (in), 21 D0- (out), 22 D0+ (out), 23 D1- (out), 24 D1+ (out), 25 D2- (out), 26 D2+ (out), 27 D3- (out), 28 D3+ (out), 29 D4- (out), 30 D4+ (out), 31 OGND (power), 32 OVDD (power), 33 D5- (out), 34 D5+ (out), 35 D6- (out), 36 D6+ (out), 37 D7- (out), 38 D7+ (out), 39 CLKOUT- (out), 40 CLKOUT+ (out), 41 D8- (out), 42 D8+ (out), 43 D9- (out), 44 D9+ (out), 45 D10- (out), 46 D10+ (out), 47 D11- (out), 48 D11+ (out), 49 OVDD (power), 50 OGND (power), 51 D12- (out), 52 D12+ (out), 53 D13- (out), 54 D13+ (out), 55 D14- (out), 56 D14+ (out), 57 D15- (out), 58 D15+ (out), 59 OF- (out), 60 OF+ (out), 61 LVDS (in), 62 MODE (in), 63 RAND (in), 64 PGA (in)

## LTC2248CUH
designator DA?  PartNumber: LTC2248CUH
RF ADC; Manufacturer: Linear Technology; ValueManufacturerPartNumber: IC RF ADC, 14 bit, 65 Msps, Parallel, 2.7...3.4V, 0...+70°C, 32-WFQFN; Supply: 2.7...3.4V; Speed: 65 Msps; InterfaceData: Parallel; Resolution: 14 bit; HelpURL: https://www.digikey.com/product-detail/en/linear-technology-analog-devices/LTC2248CUH-PBF/LTC2248CUH-PBF-ND/966497; Package: 32-WFQFN; ComponentType: IC RF ADC; Temperature: 0...+70°C
footprint 32-QFN (5x5 mm, pitch 0.5 mm, power pad)
pins: 0 PAD, 1 AIN+ (in), 2 AIN- (in), 3 REFH, 4 REFH, 5 REFL, 6 REFL, 7 VDD, 8 GND, 9 CLK (in), 10 SHDN (in), 11 OE (out), 12 D0 (out), 13 D1 (out), 14 D2 (out), 15 D3 (out), 16 D4 (out), 17 D5 (out), 18 D6 (out), 19 D7 (out), 20 OGND, 21 OVDD, 22 D8 (out), 23 D9 (out), 24 D10 (out), 25 D11 (out), 26 D12 (out), 27 D13 (out), 28 OF (out), 29 MODE (in), 30 SENSE (in), 31 VCM, 32 VDD

## MAX31865
designator DA?  PartNumber: MAX31865
RTD-to-Digital Converter; Manufacturer: Maxim Integrated; ValueManufacturerPartNumber: IC RTD-to-Digital, 15 bit, 210 Msps, SPI, 3.0...3.6V, -40...+125°C, 20-TQFN-EP; Supply: 3.0...3.6V; InterfaceData: SPI; Resolution: 15 bit; Speed: 210 Msps; HelpURL: https://datasheets.maximintegrated.com/en/ds/MAX31865.pdf; Package: 20-TQFN-EP; ComponentType: IC RTD-to-Digital; Temperature: -40...+125°C
footprint 20-QFN (5X5) (5x5 mm, pitch 0.65 mm, power pad)
pins: 0 GND, 1 BIAS (out), 2 REFIN+ (in), 3 REFIN- (in), 4 ISENSOR (in), 5 FORCE+ (in), 6 FORCE2 (in), 7 RTDIN+ (in), 8 RTDIN- (in), 9 FORCE- (in), 10 GND2 "Analog Ground. Connect to GND1.", 11 SDI (in), 12 SCLK (in), 13 CS (in), 14 SDO (out), 15 DGND "Digital Ground", 16 GND1 "Analog Ground. Connect to GND2.", 18 DRDY (out), 19 DVDD (power) "Digital Supply Voltage Input. Connect to a 3.3V power supply", 20 VDD (power) "Analog Supply Voltage Input. Connect to a 3.3V power supply"

## MCP3221A5T
designator DA?  PartNumber: MCP3221A5T-I/OT
ADC; Manufacturer: Microchip; ValueManufacturerPartNumber: IC ADC, 12 bit, 22.3 ksps, I2C, 2.7...5.5V, -40...+125°C, SOT-23-5; Supply: 2.7...5.5V; Speed: 22.3 ksps; InterfaceData: I2C; Resolution: 12 bit; HelpURL: https://www.digikey.com/product-detail/en/microchip-technology/MCP3221A5T-I-OT/MCP3221A5T-I-OTCT-ND/529836; Package: SOT-23-5; ComponentType: IC ADC; Temperature: -40...+125°C
footprint SOT23-5 (pitch 0.95 mm)
pins: 1 VDD, 2 VSS, 3 AIN, 4 SDA (io), 5 SCL (in)

## MCP4725A0T
designator DA?  PartNumber: MCP4725A0T-E/CH
DAC; Manufacturer: Microchip Technology; ValueManufacturerPartNumber: IC DAC, 12 bit, 6µs, I2C, 2.7...5.5V, -40...+125°C, SOT-23-6; Supply: 2.7...5.5V; Speed: 6µs; InterfaceData: I2C; Resolution: 12 bit; HelpURL: https://www.digikey.com/product-detail/en/microchip-technology/MCP4725A0T-E-CH/MCP4725A0T-E-CHCT-ND/1817328; Package: SOT-23-6; ComponentType: IC DAC; Temperature: -40...+125°C
footprint SOT23-6 (pitch 0.95 mm)
pins: 1 VOUT (out), 2 VSS (power), 3 VDD (power), 4 SDA (io), 5 SCL (io), 6 A0 (io)

## TLV320AIC3120IRHBT
designator DA?  PartNumber: TLV320AIC3120IRHBT
Audio codec; Manufacturer: Texas Instruments; ValueManufacturerPartNumber: IC audio codec, 32 bit, I2C/I2S, 2.7...3.6V, -40...+85°C, 32-VFQFN; Supply: 2.7...3.6V; InterfaceData: I2C/I2S; Resolution: 32 bit; HelpURL: https://www.digikey.com/product-detail/en/texas-instruments/TLV320AIC3120IRHBT/296-25815-1-ND/2233636; Package: 32-VFQFN; ComponentType: IC audio codec; Temperature: -40...+85°C
footprint 32-QFN (5x5 mm, pitch 0.5 mm, power pad)
pins: 0 PAD, 1 IOVSS, 2 IOVDD, 3 DVDD, 4 DOUT (out), 5 DIN (in), 6 WCLK (in), 7 BCLK (in), 8 MCLK (in), 9 SDA (io), 10 SCL (in), 11 VOL/MIC, 12 MICBIAS, 13 MIC1LP, 14 MIC1RP, 15 MIC1LM, 16 AVSS, 17 AVDD, 18 DVSS, 19 SPKM, 20 SPKVSS, 21 SPKVDD, 22 SPKP, 23 SPKM, 24 SPKVDD, 25 SPKVSS, 26 SPKP, 27 HPOUT, 28 HPVDD, 29 HPVSS, 31 RESET (in), 32 GPIO1 (io)